# Altium integrated library ABS06-32.768KHZ-T.IntLib: 1 symbol
Pins are listed as number, name and electrical type; pins without a type are passive.

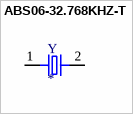
[diagram p0: symbol ABS06-32.768KHZ-T]

## ABS06-32.768KHZ-T
designator Y
32.768kHz Â±20ppm Crystal 12.5pF 90 kOhms 2-SMD, No Lead; MP: ABS06-32.768KHZ-T; MF: Abracon; SnapEDA_Link: https://www.snapeda.com/parts/ABS06-32.768KHZ-T/Abracon%20LLC/view-part/108994/?ref=snap; DigiKey-Purchase-URL: https://snapeda.com/shop?store=DigiKey&id=108994; Availability: Unavailable; Price: None; Value: *; Package: SMD-2 Abracon
footprint XTAL_ABS06-32.768KHZ-T
pins: 1, 2